# EAGLE library part HLK-RM04 (library HLK-RM04)
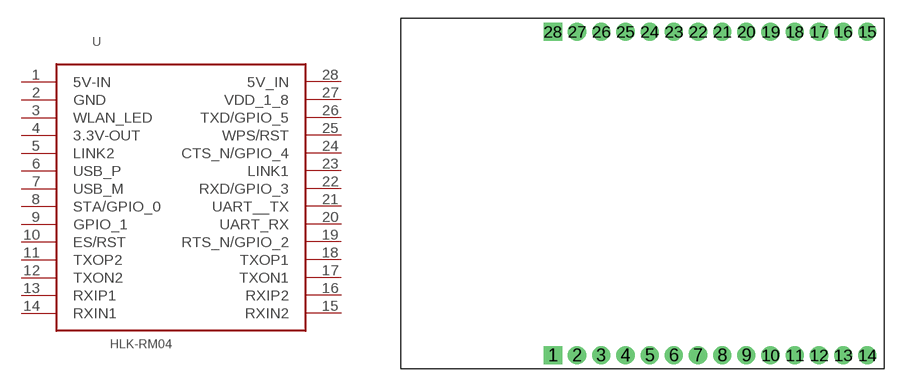
[diagram p0: symbol with the pads of HLK-RM04; footprint HLK-RM04]

Designator prefix -

## HLK-RM04  [HLK-RM04]
1  5V-IN
2  GND
3  WLAN_LED
4  3.3V-OUT
5  LINK2
6  USB_P
7  USB_M
8  STA/GPIO_0
9  GPIO_1
10  ES/RST
11  TXOP2
12  TXON2
13  RXIP1
14  RXIN1
15  RXIN2
16  RXIP2
17  TXON1
18  TXOP1
19  RTS_N/GPIO_2
20  UART_RX
21  UART__TX
22  RXD/GPIO_3
23  LINK1
24  CTS_N/GPIO_4
25  WPS/RST
26  TXD/GPIO_5
27  VDD_1_8
28  5V_IN

## Footprint HLK-RM04 (pad centres in mm)
drill 1 square: 1 0,-13.375; 28 0,13.375
drill 1: 2 2,-13.375; 3 4,-13.375; 4 6,-13.375; 5 8,-13.375; 6 10,-13.375; 7 12,-13.375; 8 14,-13.375; 9 16,-13.375; 10 18,-13.375; 11 20,-13.375; 12 22,-13.375; 13 24,-13.375; 14 26,-13.375; 15 26,13.375; 16 24,13.375; 17 22,13.375; 18 20,13.375; 19 18,13.375; 20 16,13.375; 21 14,13.375; 22 12,13.375; 23 10,13.375; 24 8,13.375; 25 6,13.375; 26 4,13.375; 27 2,13.375